# Altium schematic symbol library ALLEGRO A4954.SchLib: 1 symbol
Pins are listed as number, name and electrical type; pins without a type are passive.

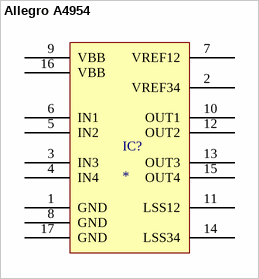
[diagram p0: symbol Allegro A4954]

## Allegro A4954
designator IC?
pins: 1 GND, 2 VREF34, 3 IN3, 4 IN4, 5 IN2, 6 IN1, 7 VREF12, 8 GND, 9 VBB, 10 OUT1, 11 LSS12, 12 OUT2, 13 OUT3, 14 LSS34, 15 OUT4, 16 VBB, 17 GND